# Altium footprint library Micron.PcbLib: 1 footprints
Each footprint in its own frame and in the unit in brackets; x right, y up, seen from the top. Pads: shape width x height; smd on the part's side, far side on the other; paste and mask are expansions set on the pad; w line width, h text height; cw(c..) or ccw(c..) is an arc to the next point about the centre after c.
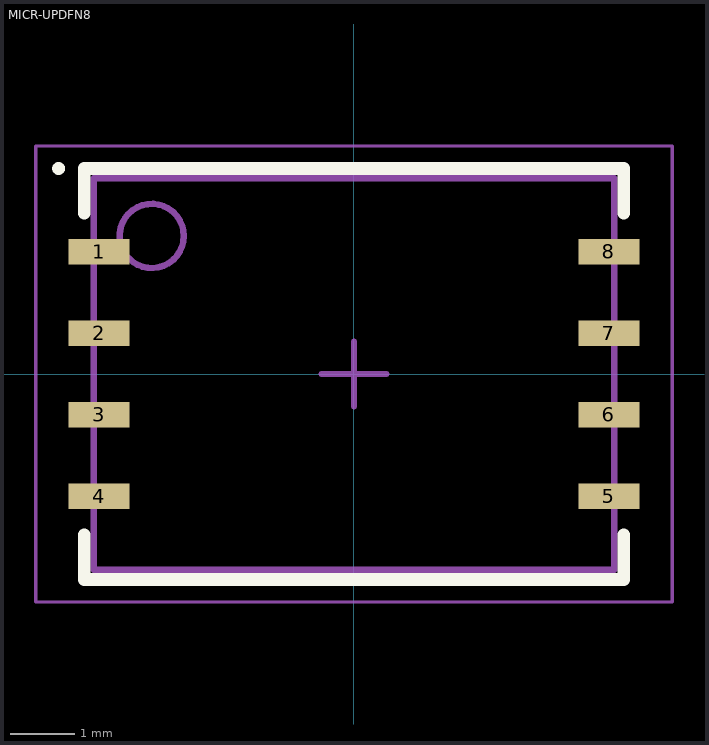
[diagram p0: the footprint, top view; thin cyan lines are the x and y axes]

## MICR-UPDFN8 [mm] "SON, 8-Leads, Body 6.00x8.00mm, Pitch 1.27mm, IPC Low Density"
height 0.65
pads (8):
  rect 0.95x0.4 smd: 1(-3.97,1.905) 2(-3.97,0.635) 3(-3.97,-0.635) 4(-3.97,-1.905) 5(3.97,-1.905) 6(3.97,-0.635) 7(3.97,0.635) 8(3.97,1.905)
Top Overlay:
  circle w0.1: c-4.6,3.2 r0.05
  lines w0.2: -4.2,-2.505 -4.2,-3.2 4.2,-3.2 4.2,-2.505 ; -4.2,2.505 -4.2,3.2 4.2,3.2 4.2,2.505
Mechanical 13:
  circle w0.1: c-3.15,2.15 r0.5
  lines w0.1: -4.05,-3.05 4.05,-3.05 4.05,3.05 -4.05,3.05 -4.05,-3.05
Mechanical 15:
  lines w0.05: -4.955,-3.55 4.955,-3.55 4.955,3.55 -4.955,3.55 -4.955,-3.55
  lines w0.1: -0.5,0 0.5,0 ; 0,-0.5 0,0.5
3D body "MICR-UPDFN8.step": height 0.65, standoff 0.04, extent -4.05,-3.05 4.05,3.05